# Altium schematic symbol library General_Devices.SchLib: 18 symbols
Pins are listed as number, name and electrical type; pins without a type are passive.

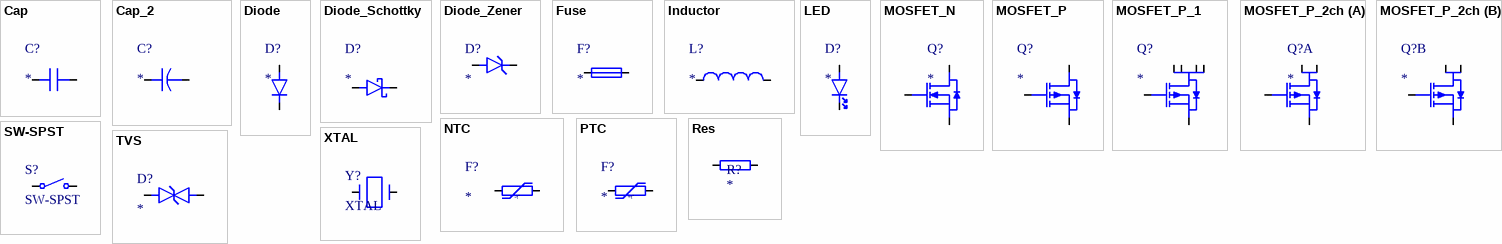
[diagram p0: symbols Cap to XTAL]

## Cap
designator C?
General capacitor (non-polarized); Mfr. #: *; Mfr.: *; Distributor_Link: *; Datasheet: *; Distributor #: *
footprint 0805_Cap
footprint 0603_Cap
footprint 0402_CAP
pins: 1, 2

## Cap_2
designator C?
General capacitor (with polarity); Mfr. #: *; Mfr.: *; Distributor_Link: *; Datasheet: *; Distributor #: *
pins: 1, 2

## Diode
designator D?
General Diode; Mfr. #: *; Mfr.: *; Distributor_Link: *; Datasheet: *; Distributor #: *
pins: 1 A, 2 K

## Diode_Schottky
designator D?
General schottky diode; Mfr. #: *; Mfr.: *; Distributor_Link: *; Datasheet: *; Distributor #: *
pins: 1 A, 2 K

## Diode_Zener
designator D?
General zener diode; Mfr. #: *; Mfr.: *; Distributor_Link: *; Datasheet: *; Distributor #: *
footprint SOD-523
footprint SOD-923-2
pins: 1 A, 2 K

## Fuse
designator F?
General fuse; Mfr. #: *; Mfr.: *; Distributor_Link: *; Datasheet: *; Distributor #: *
footprint 1206_fuse
pins: 1, 2

## Inductor
designator L?
General Inductor; Mfr. #: *; Mfr.: *; Distributor_Link: *; Datasheet: *; Distributor #: *
footprint 1212_Ind
footprint 1210_Ind
pins: 1, 2

## LED
designator D?
General LED; Mfr. #: *; Mfr.: *; Distributor_Link: *; Datasheet: *; Distributor #: *
footprint 0603_LED
pins: 1 A, 2 K

## MOSFET_N
designator Q?
General n channel mosfet; Mfr. #: *; Mfr.: *; Distributor_Link: *; Datasheet: *; Distributor #: *
footprint SOT-523-3
footprint CST3-3
pins: 1 D, 2 G, 3 S

## MOSFET_P
designator Q?
General p channel mosfet; Mfr. #: *; Mfr.: *; Distributor_Link: *; Datasheet: *; Distributor #: *
footprint SOT-523-3
footprint CST3-3
pins: 1 D1, 2 G1, 3 S1

## MOSFET_P_1
designator Q?
General p channel mosfet; Mfr. #: *; Mfr.: *; Distributor_Link: *; Datasheet: *; Distributor #: *
footprint TSOP-6
pins: 1 D1_1, 2 D1_2, 3 G1, 4 S1, 5 D1_3, 6 D1_4

## MOSFET_P_2ch
designator Q?
General 2 Channel p mosfet; Mfr. #: *; Mfr.: *; Distributor_Link: *; Datasheet: *; Distributor #: *
footprint SOIC-8
footprint UDFN-6
part A pins: 3 S1, 4 G1, 5 D1, 6 D1
part B pins: 1 S2, 2 G2, 7 D2, 8 D2

## NTC
designator F?
General Negative Power Thermistor; Mfr. #: *; Mfr.: *; Distributor_Link: *; Datasheet: *; Distributor #: *
pins: 1, 2
text: -t°

## PTC
designator F?
General Positive Temperature Coefficient; Mfr. #: *; Mfr.: *; Distributor_Link: *; Datasheet: *; Distributor #: *
footprint 1210_PTC
footprint 2920_PTC
pins: 1, 2
text: +t°

## Res
designator R?
General Resistor; Mfr. #: *; Mfr.: *; Distributor_Link: *; Datasheet: *; Distributor #: *
footprint 0603_Res
footprint 0402_Res
pins: 1, 2

## SW-SPST
designator S?
General Single-Pole, Single-Throw Switch; Mfr. #: *; Mfr.: *; Distributor_Link: *; Datasheet: *; Distributor #: *
pins: 1, 2

## TVS
designator D?
General TVS; Mfr. #: *; Mfr.: *; Distributor_Link: *; Datasheet: *; Distributor #: *
footprint SOD-523
footprint SOD-923-2
pins: 1 A, 2 K

## XTAL
designator Y?
General Crystals; Mfr. #: *; Mfr.: *; Distributor_Link: *; Datasheet: *; Distributor #: *
pins: 1, 2